# Altium schematic symbol library TH Relays.SchLib: 3 symbols
Pins are listed as number, name and electrical type; pins without a type are passive.

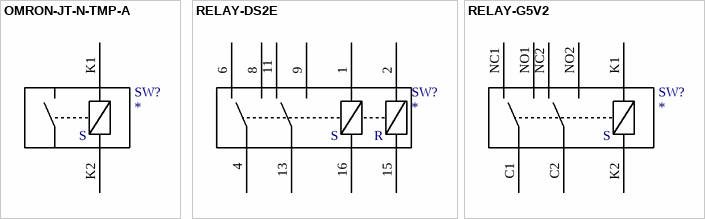
[diagram p0: symbols OMRON-JT-N-TMP-A to RELAY-G5V2]

## OMRON-JT-N-TMP-A
designator SW?
RELAY DPDT SINGLE COIL; Text Field1: NAIS-OMRON; Text Field2: DS2E-ML2-DV12V; Text Field3: DIGIKEY; Supplier 1: Mouser; Supplier Part Number 1: 769-JTN1ASTMPFDC12V
footprint OMRON-JT-N-TMP-A (OMRON POWER RELAY FASTON SPST)
pins: K1, K2
text: S

## RELAY-DS2E
designator SW?
RELAY TELECOM DPDT DUAL COIL SHIELDED; Text Field1: NAIS-OMRON; Text Field2: DS2E-ML2-DV12V; Text Field3: DIGIKEY
footprint RELAY-DS2E
pins: 1, 2, 4, 6, 8, 9, 11, 13, 15, 16
text: S; R

## RELAY-G5V2
designator SW?
RELAY DPDT SINGLE COIL; Text Field1: NAIS-OMRON; Text Field2: DS2E-ML2-DV12V; Text Field3: DIGIKEY
footprint RELAY-G5V-2
pins: C1, C2, K1, K2, NC1, NC2, NO1, NO2
text: S